# Altium schematic symbol library Gates.SchLib: 3 symbols
Pins are listed as number, name and electrical type; pins without a type are passive.

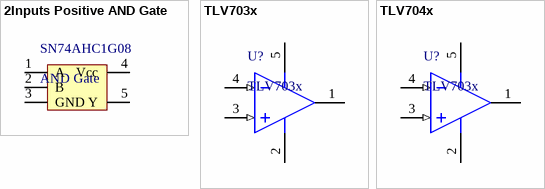
[diagram p0: symbols 2Inputs Positive AND Gate to TLV704x]

## 2Inputs Positive AND Gate
designator SN74AHC1G08, comment AND Gate
pins: 1 A, 2 B, 3 GND, 4 Vcc, 5 Y

## TLV703x
designator U?
Push-Pull Small-Size, Nanopower, Low-Voltage Comparator; ComponentLink1Description: Datasheet; ComponentLink1URL: http://www.ti.com/lit/ds/symlink/tlv7031.pdf?HQS=TI-null-null-mousermode-df-pf-null-wwe&DCM=yes&ref_url=https%3A%2F%2Fwww.mouser.com%2F
footprint SOT23 (SOT23, 5-Leads, Body 2.9x1.6mm, Pitch 0.95mm)
pins: 1 OUT (oc), 2 VEE (power), 3 IN+ (in), 4 IN- (in), 5 VCC (power)

## TLV704x
designator U?, comment TLV703x
Open Drain Small-Size, Nanopower, Low-Voltage Comparator; ComponentLink1Description: Datasheet; ComponentLink1URL: http://www.ti.com/lit/ds/symlink/tlv7031.pdf?HQS=TI-null-null-mousermode-df-pf-null-wwe&DCM=yes&ref_url=https%3A%2F%2Fwww.mouser.com%2F
pins: 1 OUT (oc), 2 VEE (power), 3 IN+ (in), 4 IN- (in), 5 VCC (power)